# Altium footprint library Zener Diode.PcbLib: 1 footprints
Each footprint in its own frame and in the unit in brackets; x right, y up, seen from the top. Pads: shape width x height; smd on the part's side, far side on the other; paste and mask are expansions set on the pad; w line width, h text height; cw(c..) or ccw(c..) is an arc to the next point about the centre after c.
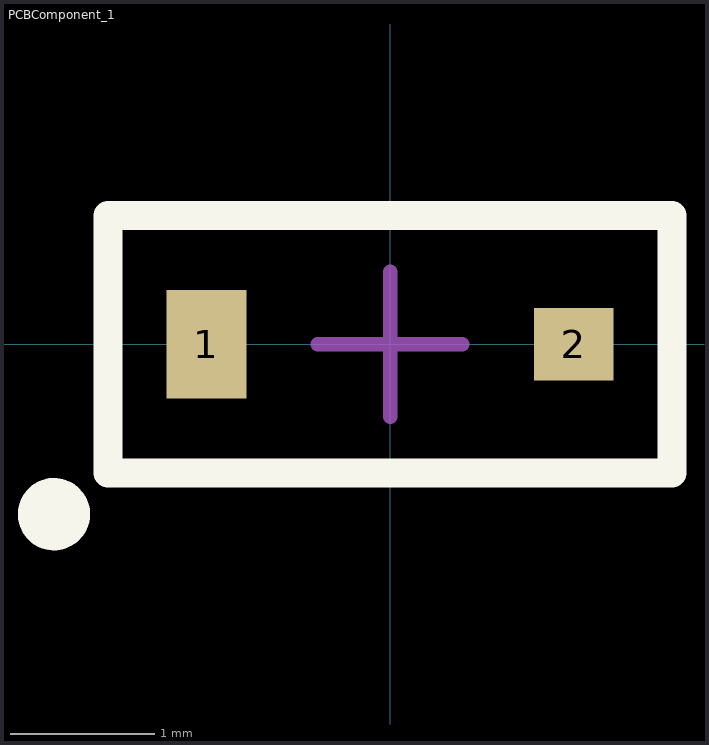
[diagram p0: the footprint, top view; thin cyan lines are the x and y axes]

## PCBComponent_1 [mm]
pads (2):
  rect 0.55x0.75 smd: 1(-1.27,0)
  rect 0.55x0.5 smd: 2(1.27,0)
Top Overlay:
  circle w0.25: c-2.325,-1.175 r0.125
  lines w0.2: -1.95,-0.889 -1.95,0.889 1.95,0.889 1.95,-0.889 -1.95,-0.889
Mechanical 15:
  lines w0.1: -0.5,0 0.5,0 ; 0,-0.5 0,0.5
3D body: height 0.7, standoff 0, extent -0.889,-0.635 0.889,0.635